# Altium footprint library PQFN-20.PcbLib: 1 footprints
Each footprint in its own frame and in the unit in brackets; x right, y up, seen from the top. Pads: shape width x height; smd on the part's side, far side on the other; paste and mask are expansions set on the pad; w line width, h text height; cw(c..) or ccw(c..) is an arc to the next point about the centre after c.
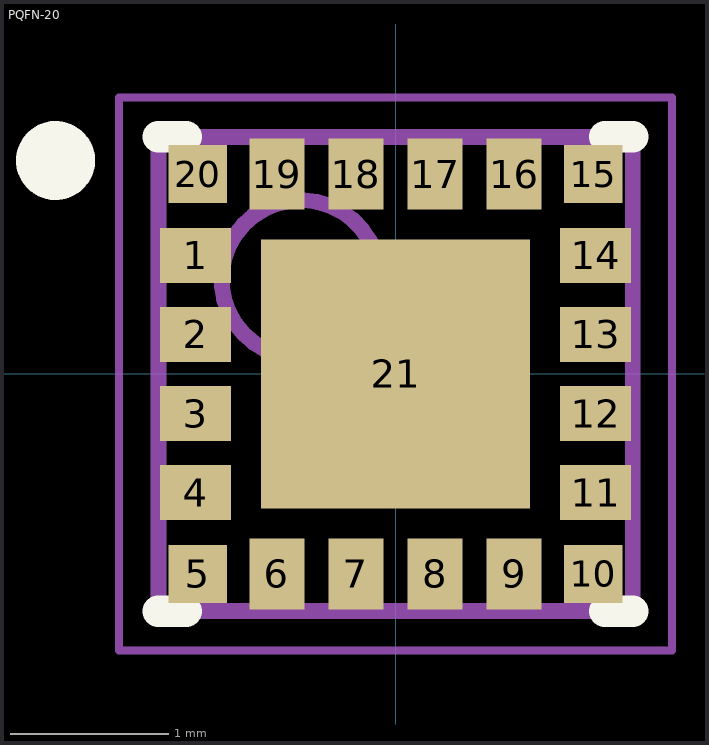
[diagram p0: the footprint, top view; thin cyan lines are the x and y axes]

## PQFN-20 [mm] "PQFN, 20-Leads, Body 3,00x3,00mm, Pitch 0,50mm, IPC Medium Density"
height 0.6
pads (21):
  rect 0.45x0.35 smd: 1(-1.265,0.75) 2(-1.265,0.25) 3(-1.265,-0.25) 4(-1.265,-0.75) 11(1.265,-0.75) 12(1.265,-0.25) 13(1.265,0.25) 14(1.265,0.75)
  rect 0.37x0.37 smd: 5(-1.25,-1.265) 10(1.25,-1.265) 15(1.25,1.265) 20(-1.25,1.265)
  rect 0.35x0.45 smd: 6(-0.75,-1.265) 7(-0.25,-1.265) 8(0.25,-1.265) 9(0.75,-1.265) 16(0.75,1.265) 17(0.25,1.265) 18(-0.25,1.265) 19(-0.75,1.265)
  rect 1.7x1.7 smd: 21(0,0)
Top Overlay:
  circle w0.25: c-2.15,1.35 r0.125
  lines w0.2: -1.5,-1.5 -1.325,-1.5 ; -1.5,1.5 -1.325,1.5 ; 1.325,-1.5 1.5,-1.5 ; 1.325,1.5 1.5,1.5
Mechanical 13:
  circle w0.1: c-0.6,0.6 r0.5
  lines w0.1: -1.5,-1.5 -1.5,1.5 1.5,1.5 1.5,-1.5 -1.5,-1.5
Mechanical 15:
  lines w0.05: -1.75,-1.75 -1.75,1.75 1.75,1.75 1.75,-1.75 -1.75,-1.75
  lines w0.1: -0.5,0 0.5,0 ; 0,-0.5 0,0.5
3D body "PQFN-20.step": height 0.6, standoff 0, extent -1.5,-1.5 1.5,1.5